# EAGLE library part SPINNLINK (library InterfaceParts)
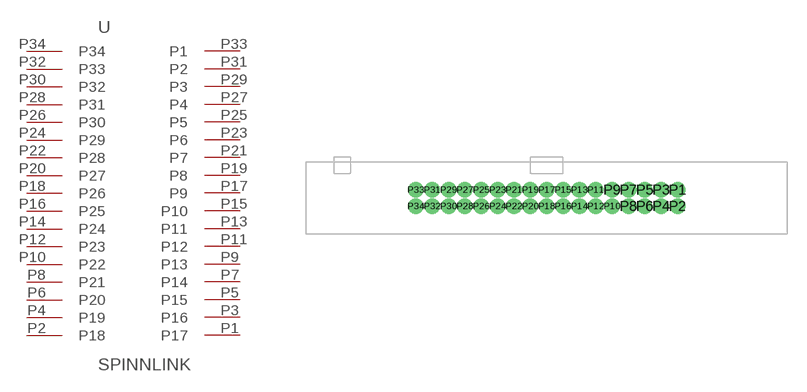
[diagram p7: symbol with the pads of C42A; footprint C42A]

Designator prefix -

## SPINNLINK  [C42A]
P1  P17
P2  P18
P3  P16
P4  P19
P5  P15
P6  P20
P7  P14
P8  P21
P9  P13
P10  P22
P11  P12
P12  P23
P13  P11
P14  P24
P15  P10
P16  P25
P17  P9
P18  P26
P19  P8
P20  P27
P21  P7
P22  P28
P23  P6
P24  P29
P25  P5
P26  P30
P27  P4
P28  P31
P29  P3
P30  P32
P31  P2
P32  P33
P33  P1
P34  P34

## Footprint C42A (pad centres in mm)
drill 0.7 pad 0.95: P1 10.16,1.27; P2 10.16,0; P3 8.89,1.27; P4 8.89,0; P5 7.62,1.27; P6 7.62,0; P7 6.35,1.27; P8 6.35,0; P9 5.08,1.27; P10 5.08,0; P11 3.81,1.27; P12 3.81,0; P13 2.54,1.27; P14 2.54,0; P15 1.27,1.27; P16 1.27,0; P17 0,1.27; P18 0,0; P19 -1.27,1.27; P20 -1.27,0; P21 -2.54,1.27; P22 -2.54,0; P23 -3.81,1.27; P24 -3.81,0; P25 -5.08,1.27; P26 -5.08,0; P27 -6.35,1.27; P28 -6.35,0; P29 -7.62,1.27; P30 -7.62,0; P31 -8.89,1.27; P32 -8.89,0; P33 -10.16,1.27; P34 -10.16,0